# EAGLE library part MAX3221 (library MAX3221)
Check availability <https://pricing.snapeda.com/parts/MAX3221/Texas%20Instruments/view-part?ref=eda>
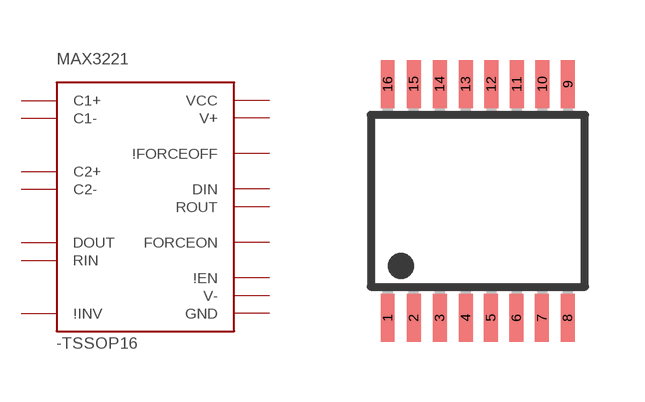
[diagram p0: symbol with the pads of TSSOP16; footprint TSSOP16]

Designator prefix -TSSOP16

## MAX3221-TSSOP16 (AVAILABILITY: In Stock; DESCRIPTION: Single Transmitter/Receiver RS-232 16-Pin TSSOP Tube; MF: Texas Instruments; MP: MAX3221; PACKAGE: None; PRICE: None; PURCHASE-URL: https://pricing.snapeda.com/search/part/MAX3221/?ref=eda)  [TSSOP16]
1  \!EN
2  C1+
3  V+
4  C1-
5  C2+
6  C2-
7  V-
8  RIN
9  ROUT
10  \!INV
11  DIN
12  FORCEON
13  DOUT
14  GND
15  VCC
16  \!FORCEOFF

## Footprint TSSOP16 (pad centres in mm)
Thin Shrink Small Outline Package package type ST
smd 0.35 x 1.2: 1 -0.975,-2.925; 2 -0.325,-2.925; 3 0.325,-2.925; 4 0.975,-2.925; 5 1.605,-2.925; 6 2.245,-2.925; 7 2.885,-2.925; 8 3.525,-2.925; 9 3.535,2.925; 10 2.895,2.925; 11 2.255,2.925; 12 1.615,2.925; 13 0.975,2.925; 14 0.325,2.925; 15 -0.325,2.925; 16 -0.975,2.925